# Altium footprint library TH Transistors.PcbLib: 1 footprints
Each footprint in its own frame and in the unit in brackets; x right, y up, seen from the top. Pads: shape width x height; smd on the part's side, far side on the other; paste and mask are expansions set on the pad; w line width, h text height; cw(c..) or ccw(c..) is an arc to the next point about the centre after c.
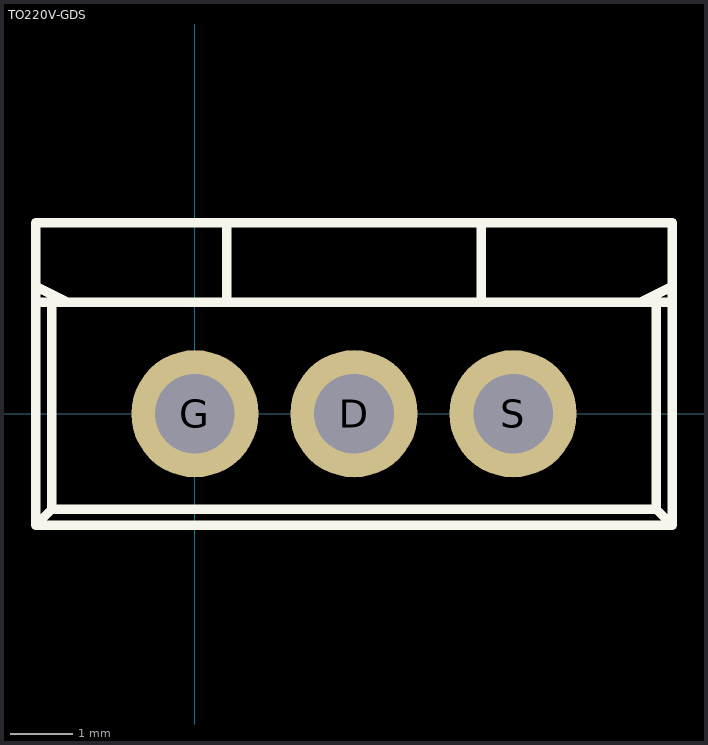
[diagram p0: the footprint, top view; thin cyan lines are the x and y axes]

## TO220V-GDS [mil]
pads (3):
  round 80 hole 50 unplated: D(100,0) G(0,0) S(200,0)
Top Overlay:
  lines w6: -100,70 -80,70 ; -100,80 -80,70 ; -90,70 -90,-60 ; 20,120 20,70 100,70 ; 180,120 180,70 100,70 ; 290,70 290,-60 ; 300,70 280,70 ; 300,80 280,70 ; -100,-70 100,-70 300,-70 ; -100,-70 -100,120 100,120 300,120 300,-70 ; -100,-70 -90,-60 ; -90,-60 100,-60 290,-60 ; -80,70 100,70 ; 100,70 280,70 ; 290,-60 300,-70
3D body "42ctq030.stp": height 940.16, standoff -279.92, extent -110.03,-71.49 310.04,118.67
3D body: height 160, standoff -120, extent -20,-20 20,20
3D body: height 320, standoff 160, extent -35,-20 35,20
3D body: height 160, standoff -120, extent 80,-20 120,20
3D body: height 320, standoff 160, extent 65,-20 135,20
3D body: height 320, standoff 160, extent 165,-20 235,20
3D body: height 160, standoff -120, extent 180,-20 220,20
3D body: height 920, standoff 320, extent -100,70 300,120